# EAGLE library part TL082 (library soumilcustom)
TL082 JFET Input Operational Amplifier Dual, General Purpose JFET Input OpAmp Package: Socket 08 http://www.ti.com/product/TL082
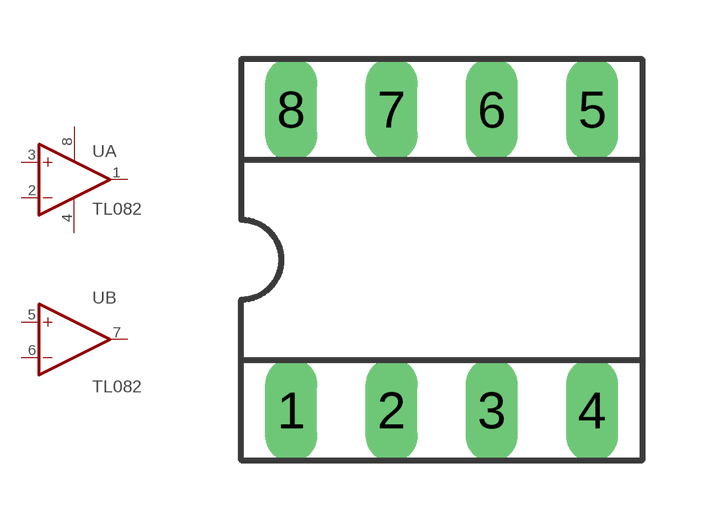
[diagram p0: symbol with the pads of SOCKET8; footprint SOCKET8]

Designator prefix -; gates A=OPAMP+-V B=OPAMP+-

## TL082  [SOCKET8]
1  A:OUT1  out
2  A:-IN1  in
3  A:+IN1  in
4  A:V-  pwr
5  B:+IN1  in
6  B:-IN1  in
7  B:OUT1  out
8  A:V+  pwr

## Footprint SOCKET8 (pad centres in mm)
drill 0.813 long: 1 -3.81,-3.81; 2 -1.27,-3.81; 3 1.27,-3.81; 4 3.81,-3.81; 5 3.81,3.81; 6 1.27,3.81; 7 -1.27,3.81; 8 -3.81,3.81